# Altium footprint library USB HUB 3.0.PcbLib: 20 footprints (part 1 of 2)
Each footprint in its own frame and in the unit in brackets; x right, y up, seen from the top. Pads: shape width x height; smd on the part's side, far side on the other; paste and mask are expansions set on the pad; w line width, h text height; cw(c..) or ccw(c..) is an arc to the next point about the centre after c.
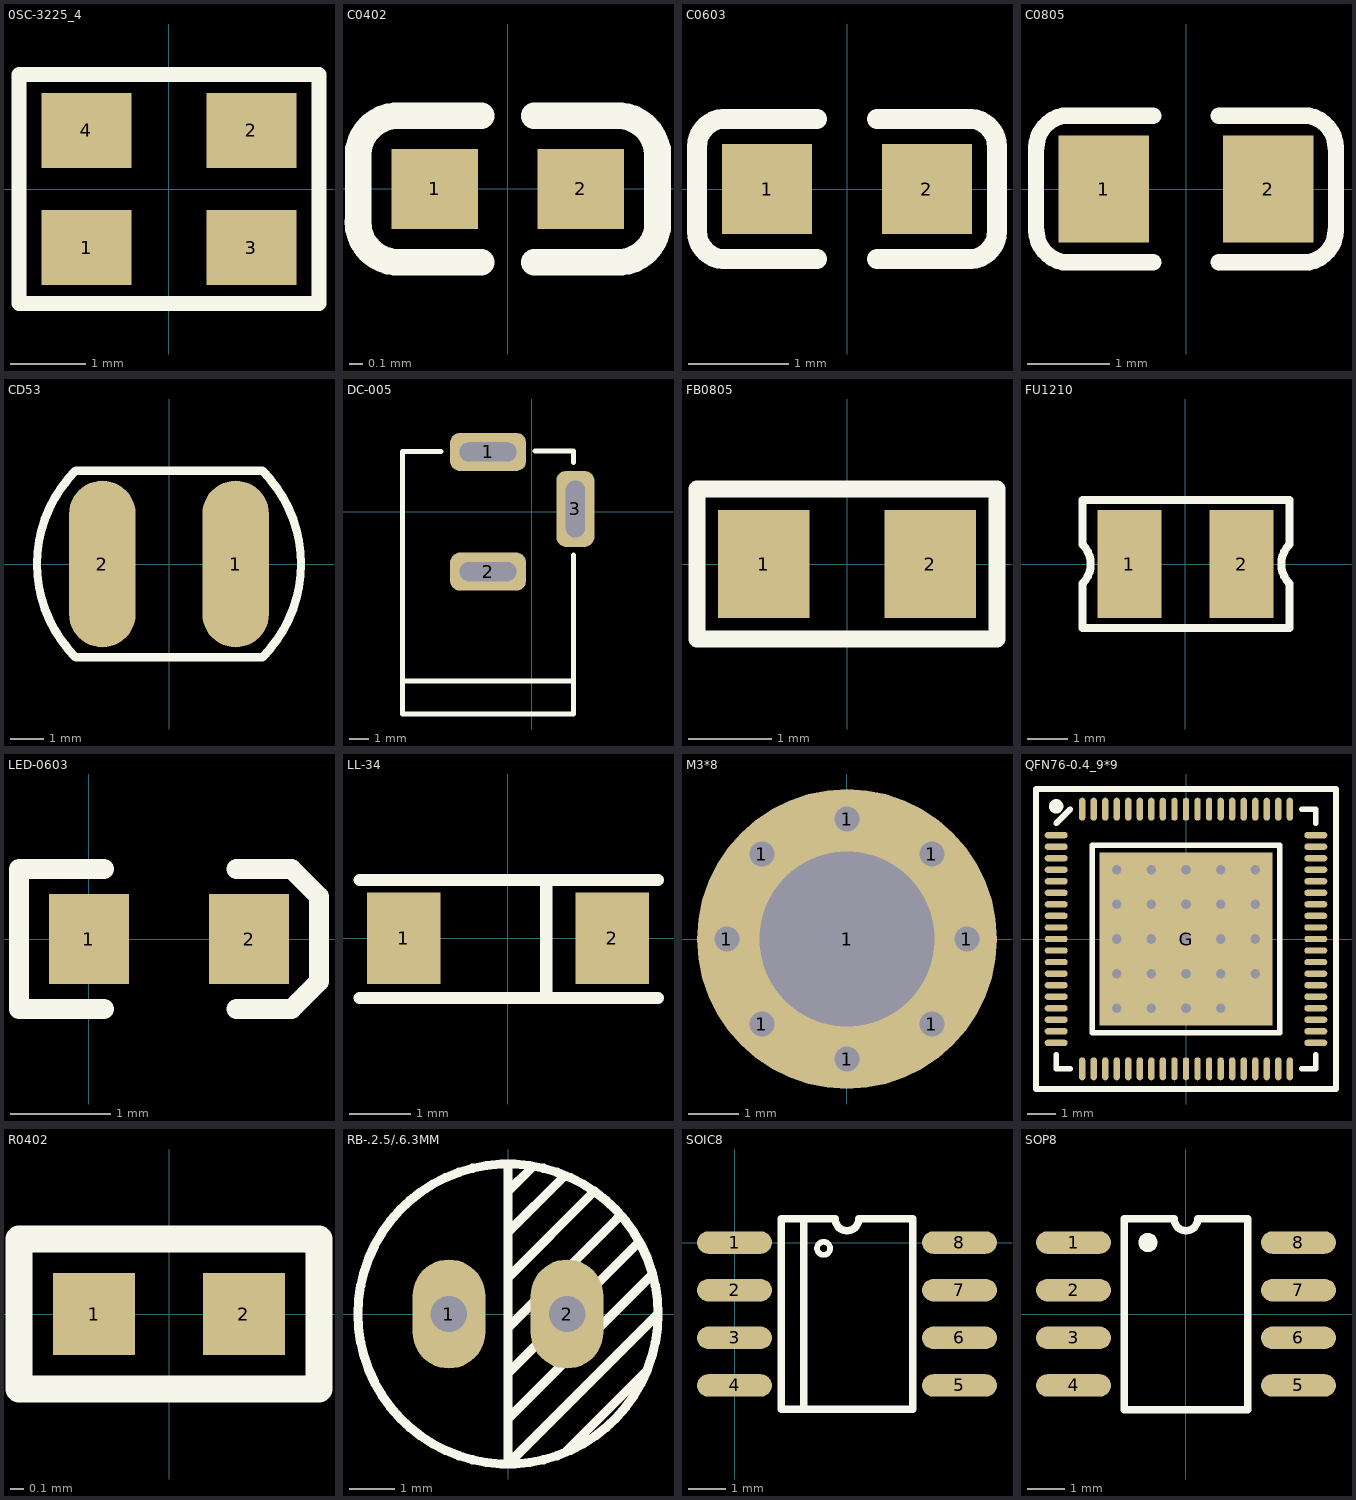
[diagram p0: the footprints below, top view; thin cyan lines are the x and y axes]

## 0SC-3225_4 [mm]
pads (4):
  rect 1.2x1 smd: 1(-1.1,-0.782) 2(1.1,0.782) 3(1.1,-0.782) 4(-1.1,0.782)
Top Overlay:
  lines w0.2: -2,-1.524 -2,1.524 2,1.524 2,-1.524 -2,-1.524

## C0402 [mm]
height 0.4
pads (2):
  rect 0.65x0.6 smd: 1(-0.55,0) 2(0.55,0)
Top Overlay:
  lines w0.2: -1.126,-0.25 ccw(c-0.825,-0.25) -0.8,-0.55 -0.2,-0.55 ; -1.125,-0.3 -1.125,0.3 ; -1.122,0.299 cw(c-0.825,0.25) -0.8,0.55 -0.2,0.55 ; 0.2,-0.55 0.8,-0.55 ; 0.2,0.55 0.8,0.55 cw(c0.825,0.25) 1.126,0.25 ; 0.803,-0.551 ccw(c0.828,-0.251) 1.125,-0.3 1.125,0.3

## C0603 [mm]
pads (2):
  rect 0.9x0.9 smd: 1(-0.8,0) 2(0.8,0)
Top Overlay:
  lines w0.2: -1.501,-0.425 ccw(c-1.225,-0.425) -1.2,-0.7 -0.3,-0.7 ; -1.501,0.425 cw(c-1.225,0.425) -1.2,0.7 -0.3,0.7 ; -1.5,-0.4 -1.5,0.4 ; 0.3,-0.7 1.2,-0.7 ccw(c1.225,-0.425) 1.501,-0.425 ; 0.3,0.7 1.2,0.7 cw(c1.225,0.425) 1.501,0.425 ; 1.5,-0.4 1.5,0.4
3D body "User Library-0603 SMD Capacitor.STEP": height 0.3, standoff 0, extent -0.8,-0.4 0.8,0.4

## C0805 [mm]
pads (2):
  rect 1.1x1.3 smd: 1(-1,0) 2(1,0)
Top Overlay:
  lines w0.2: -1.825,-0.5 -1.825,0.5 ; -1.821,-0.5 ccw(c-1.425,-0.5) -1.5,-0.889 -0.4,-0.889 ; -1.821,0.5 cw(c-1.425,0.5) -1.5,0.889 -0.4,0.889 ; 0.4,-0.889 1.5,-0.889 ccw(c1.425,-0.5) 1.821,-0.5 ; 0.4,0.889 1.5,0.889 cw(c1.425,0.5) 1.821,0.5 ; 1.825,-0.5 1.825,0.5
3D body "User Library-0805 SMD Capacitor.STEP": height 0.77, standoff -0.01, extent -1,-0.625 1,0.625

## CD53 [mm]
pads (2):
  oval 2x5 smd: 1(2,0) 2(-2,0)
Top Overlay:
  lines w0.254: -2.8,-2.8 cw(c0,0) -2.8,2.8 2.8,2.8 cw(c0,0) 2.8,-2.8 -2.8,-2.8

## DC-005 [mm]
pads (3):
  rrect50% 4x2 hole 1 slot 3 at 0 deg: 1(-2.3,3.15) 2(-2.3,-3.15)
  rrect50% 2x4 hole 1 slot 3 at 90 deg: 3(2.3,0.15)
Top Overlay:
  lines w0.254: -6.8,-8.915 2.2,-8.915 ; -4.782,3.168 -6.8,3.168 -6.8,-10.65 2.2,-10.65 2.2,-2.275 ; 0.157,3.193 2.2,3.193 2.2,2.6

## FB0805 [mm]
pads (2):
  rect 1.1x1.3 smd: 1(-1,0) 2(1,0)
Top Overlay:
  lines w0.2: -1.8,-0.9 -1.8,0.9 1.8,0.9 1.8,-0.9 -1.8,-0.9

## FU1210 [mm]
pads (2):
  rect 1.6x2.7 smd: 1(-1.4,0) 2(1.4,0)
Top Overlay:
  lines w0.2: 2.565,-1.6 -2.565,-1.6 -2.565,-0.483 ccw(c-3.048,0) -2.565,0.483 -2.565,1.6 2.565,1.6 ; 2.591,-1.6 2.591,-0.483 cw(c3.074,0) 2.591,0.483 2.591,1.6

## LED-0603 [mm]
pads (2):
  rect 0.8x0.9 smd: 1(0,0) 2(1.6,0)
Top Overlay:
  lines w0.2: 0.15,-0.7 -0.7,-0.7 -0.7,0.7 0.15,0.7 ; 1.475,-0.7 2.025,-0.7 2.3,-0.425 2.3,0.425 2.025,0.7 1.475,0.7

## LL-34 [mm]
pads (2):
  rect 1.2x1.5 smd: 1(-1.7,0) 2(1.7,0)
Top Overlay:
  lines w0.2: -2.425,-0.975 2.45,-0.975 ; -2.425,0.95 2.45,0.95 ; 0.625,-0.975 0.625,0.95
3D body "User Library-Diode MELF.STEP": height -0.39, standoff -1.89, extent -1.75,-0.75 1.75,0.75

## M3*8 [mm] "M3螺丝孔"
pads (9):
  round 0.5 hole 0.5: 1(-2.4,0) 1(-1.7,-1.7) 1(-1.7,1.7) 1(0,-2.4) 1(0,2.4) 1(1.7,-1.7) 1(1.7,1.7) 1(2.4,0)
  round 6 hole 3.5: 1(0,0)

## QFN76-0.4_9*9 [mm] "QFN, 76-Leads, Body 9.0x9.0mm (max), Pitch 0.40mm, IPC Medium Density"
height 0.85
pads (77):
  oval 0.8x0.22 smd: 1(-4.5,3.6) 2(-4.5,3.2) 3(-4.5,2.8) 4(-4.5,2.4) 5(-4.5,2) 6(-4.5,1.6) 7(-4.5,1.2) 8(-4.5,0.8) 9(-4.5,0.4) 10(-4.5,0) 11(-4.5,-0.4) 12(-4.5,-0.8) 13(-4.5,-1.2) 14(-4.5,-1.6) 15(-4.5,-2) 16(-4.5,-2.4) 17(-4.5,-2.8) 18(-4.5,-3.2) 19(-4.5,-3.6) 39(4.5,-3.6) 40(4.5,-3.2) 41(4.5,-2.8) 42(4.5,-2.4) 43(4.5,-2) 44(4.5,-1.6) 45(4.5,-1.2) 46(4.5,-0.8) 47(4.5,-0.4) 48(4.5,0) 49(4.5,0.4) 50(4.5,0.8) 51(4.5,1.2) 52(4.5,1.6) 53(4.5,2) 54(4.5,2.4) 55(4.5,2.8) 56(4.5,3.2) 57(4.5,3.6)
  oval 0.22x0.8 smd: 20(-3.6,-4.5) 21(-3.2,-4.5) 22(-2.8,-4.5) 23(-2.4,-4.5) 24(-2,-4.5) 25(-1.6,-4.5) 26(-1.2,-4.5) 27(-0.8,-4.5) 28(-0.4,-4.5) 29(0,-4.5) 30(0.4,-4.5) 31(0.8,-4.5) 32(1.2,-4.5) 33(1.6,-4.5) 34(2,-4.5) 35(2.4,-4.5) 36(2.8,-4.5) 37(3.2,-4.5) 38(3.6,-4.5) 58(3.6,4.5) 59(3.2,4.5) 60(2.8,4.5) 61(2.4,4.5) 62(2,4.5) 63(1.6,4.5) 64(1.2,4.5) 65(0.8,4.5) 66(0.4,4.5) 67(0,4.5) 68(-0.4,4.5) 69(-0.8,4.5) 70(-1.2,4.5) 71(-1.6,4.5) 72(-2,4.5) 73(-2.4,4.5) 74(-2.8,4.5) 75(-3.2,4.5) 76(-3.6,4.5)
  rect 6x6 smd: G(0,0)
via 1.2,-2.4 diameter 0.66 hole 0.33
via 0,-2.4 diameter 0.66 hole 0.33
via -1.2,-2.4 diameter 0.66 hole 0.33
via -2.4,-2.4 diameter 0.66 hole 0.33
via 2.4,-1.2 diameter 0.66 hole 0.33
via 1.2,-1.2 diameter 0.66 hole 0.33
via 0,-1.2 diameter 0.66 hole 0.33
via -1.2,-1.2 diameter 0.66 hole 0.33
via -2.4,-1.2 diameter 0.66 hole 0.33
via 2.4,0 diameter 0.66 hole 0.33
via 1.2,0 diameter 0.66 hole 0.33
via 0,0 diameter 0.66 hole 0.33
via -1.2,0 diameter 0.66 hole 0.33
via -2.4,0 diameter 0.66 hole 0.33
via 2.4,1.2 diameter 0.66 hole 0.33
via 1.2,1.2 diameter 0.66 hole 0.33
via 0,1.2 diameter 0.66 hole 0.33
via -1.2,1.2 diameter 0.66 hole 0.33
via -2.4,1.2 diameter 0.66 hole 0.33
via 2.4,2.4 diameter 0.66 hole 0.33
via 1.2,2.4 diameter 0.66 hole 0.33
via 0,2.4 diameter 0.66 hole 0.33
via -1.2,2.4 diameter 0.66 hole 0.33
via -2.4,2.4 diameter 0.66 hole 0.33
Top Overlay:
  circle w0.25: c-4.5,4.6 r0.125
  lines w0.2: -4.5,-4.01 -4.5,-4.5 -4.01,-4.5 ; -4.5,4.01 -4.01,4.5 ; 4.01,-4.5 4.5,-4.5 4.5,-4.01 ; 4.01,4.5 4.5,4.5 4.5,4.01 ; -5.2,-5.2 5.2,-5.2 5.2,5.2 -5.2,5.2 -5.2,-5.2 ; -3.25,-3.25 3.25,-3.25 3.25,3.25 -3.25,3.25 -3.25,-3.25
3D body: height 0.85, standoff 0.02, extent -4.5,-4.5 4.5,4.5

## R0402 [mm]
pads (2):
  rect 0.6x0.6 smd: 1(-0.55,0) 2(0.55,0)
Top Overlay:
  lines w0.2: -1.1,-0.55 -1.1,0.55 1.1,0.55 1.1,-0.55 -1.1,-0.55
3D body "R0402.STEP": height 0.35, standoff 0, extent -0.5,-0.25 0.5,0.25

## RB-.2.5/.6.3MM [mm] "电解电容"
height 13
pads (2):
  oval 1.6x2.4 hole 0.8: 1(-1.3,0) 2(1.3,0)
Top Overlay:
  circle w0.2: c0,0 r3.3
  lines w0.2: 0,-2.3 3.157,0.857 ; 0,-1.3 2.885,1.585 ; 0,-0.3 2.4,2.1 ; 0,0.8 1.9,2.7 ; 0,1.8 1.2,3 ; 0,2.7 0.5,3.2 ; 0,3.2 0,-3.3 3.3,0 ; 1.261,-3.039 3.05,-1.25 ; 0.5,3.2 0.5,3.2

## SOIC8 [mm]
pads (8):
  oval 2x0.6 smd: 1(0,0) 2(0,-1.27) 3(0,-2.54) 4(0,-3.81) 5(6,-3.81) 6(6,-2.54) 7(6,-1.27) 8(6,0)
Top Overlay:
  circle w0.15: c2.375,-0.155 r0.175
  lines w0.2: 1.85,-4.445 1.85,0.635 ; 1.25,-4.445 4.75,-4.445 4.75,0.635 3.317,0.635 cw(c3,0.635) 2.682,0.635 1.25,0.635 1.25,-4.445
3D body "SOIC8.STEP": height 1.6, standoff 0, extent -0.021,-4.4 6.021,0.62

## SOP8 [mm]
pads (8):
  oval 2x0.6 smd: 1(-3,1.905) 2(-3,0.635) 3(-3,-0.635) 4(-3,-1.905) 5(3,-1.905) 6(3,-0.635) 7(3,0.635) 8(3,1.905)
Top Overlay:
  circle w0.254: c-1.016,1.905 r0.127
  lines w0.2: -1.65,-2.55 1.65,-2.55 1.65,2.54 0.318,2.54 cw(c0,2.54) -0.318,2.54 -1.65,2.54 -1.65,-2.55
3D body "SO-8.STEP": height 1.7, standoff 0, extent -3,-2.45 3,2.45